# Altium footprint library Relays.PcbLib: 58 footprints (part 4 of 4)
Each footprint in its own frame and in the unit in brackets; x right, y up, seen from the top. Pads: shape width x height; smd on the part's side, far side on the other; paste and mask are expansions set on the pad; w line width, h text height; cw(c..) or ccw(c..) is an arc to the next point about the centre after c.
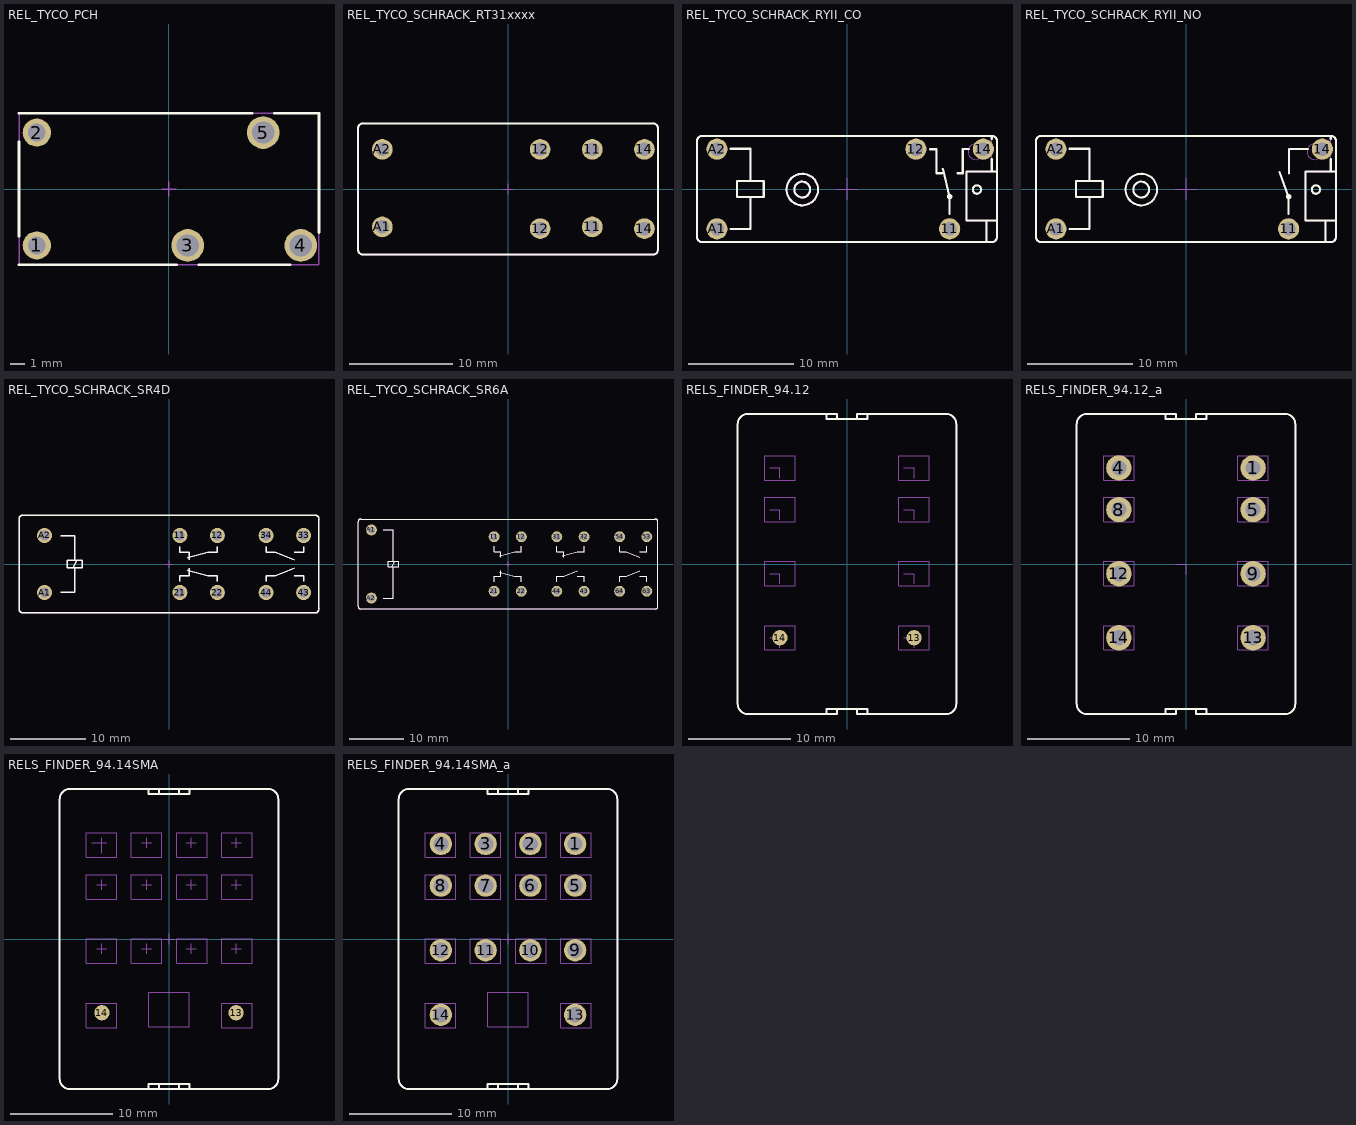
[diagram p3: the footprints below, top view; thin cyan lines are the x and y axes]

## REL_TYCO_PCH [mm] "5 Leads, Row Spacing 7.62 mm; Body 20mm x 10mm, TYCO PCH Serie"
height 15.2
pads (5):
  round 1.9 hole 1.2: 1(-8.9,-3.8) 2(-8.9,3.8)
  round 2.2 hole 1.5: 3(1.26,-3.8) 4(8.88,-3.8) 5(6.34,3.8)
Top Overlay:
  lines w0.2: -10.1,-5.1 0.512,-5.1 ; -10.1,-3.182 -10.1,3.182 ; -10.1,5.1 5.592,5.1 ; 2.008,-5.1 8.132,-5.1 ; 7.088,5.1 10.1,5.1 10.1,-2.927
Mechanical 8:
  lines w0.1: -9.4,-3.8 -8.9,-3.8 ; -9.4,3.8 -8.9,3.8 ; -8.9,-4.3 -8.9,-3.8 ; -8.9,-3.3 -8.9,-3.8 ; -8.9,3.3 -8.9,3.8 ; -8.9,4.3 -8.9,3.8 ; -8.4,-3.8 -8.9,-3.8 ; -8.4,3.8 -8.9,3.8 ; -0.5,0 0,0 ; 0,-0.5 0,0 ; 0,0.5 0,0 ; 0.5,0 0,0 ; 0.76,-3.8 1.26,-3.8 ; 1.26,-4.3 1.26,-3.8 ; 1.26,-3.3 1.26,-3.8 ; 1.76,-3.8 1.26,-3.8 ; 5.84,3.8 6.34,3.8 ; 6.34,3.3 6.34,3.8 ; 6.34,4.3 6.34,3.8 ; 6.84,3.8 6.34,3.8 ; 8.38,-3.8 8.88,-3.8 ; 8.88,-4.3 8.88,-3.8 ; 8.88,-3.3 8.88,-3.8 ; 9.38,-3.8 8.88,-3.8
Mechanical 14:
  lines w0.1: -10.1,-5.1 -10.1,5.1 10.1,5.1 10.1,-5.1 -10.1,-5.1
3D body: height 15.2, standoff -3.8, extent -10.1,-5.1 10.1,5.1

## REL_TYCO_SCHRACK_RT31xxxx [mm] "8 Leads, Row Spacing 7.62 mm; Body 29mm x 12.7mm, TYCO RT Serie"
height 15.7
pads (8):
  round 2 hole 1.3: 11(8.15,-3.67) 11(8.15,3.83) 12(3.11,-3.83) 12(3.11,3.83) 14(13.19,-3.83) 14(13.19,3.83) A1(-12.15,-3.67) A2(-12.15,3.83)
Top Overlay:
  lines w0.2: -14.5,-5.85 ccw(c-14,-5.85) -14,-6.35 14,-6.35 ccw(c14,-5.85) 14.5,-5.85 14.5,5.85 ccw(c14,5.85) 14,6.35 -14,6.35 ccw(c-14,5.85) -14.5,5.85 -14.5,-5.85
Mechanical 8:
  lines w0.1: -12.65,-3.67 -12.15,-3.67 ; -12.65,3.83 -12.15,3.83 ; -12.15,-4.17 -12.15,-3.67 ; -12.15,-3.17 -12.15,-3.67 ; -12.15,3.33 -12.15,3.83 ; -12.15,4.33 -12.15,3.83 ; -11.65,-3.67 -12.15,-3.67 ; -11.65,3.83 -12.15,3.83 ; -0.5,0 0,0 ; 0,-0.5 0,0 ; 0,0.5 0,0 ; 0.5,0 0,0 ; 2.61,-3.83 3.11,-3.83 ; 2.61,3.83 3.11,3.83 ; 3.11,-4.33 3.11,-3.83 ; 3.11,-3.33 3.11,-3.83 ; 3.11,3.33 3.11,3.83 ; 3.11,4.33 3.11,3.83 ; 3.61,-3.83 3.11,-3.83 ; 3.61,3.83 3.11,3.83 ; 7.65,-3.67 8.15,-3.67 ; 7.65,3.83 8.15,3.83 ; 8.15,-4.17 8.15,-3.67 ; 8.15,-3.17 8.15,-3.67 ; 8.15,3.33 8.15,3.83 ; 8.15,4.33 8.15,3.83 ; 8.65,-3.67 8.15,-3.67 ; 8.65,3.83 8.15,3.83 ; 12.69,-3.83 13.19,-3.83 ; 12.69,3.83 13.19,3.83 ; 13.19,-4.33 13.19,-3.83 ; 13.19,-3.33 13.19,-3.83 ; 13.19,3.33 13.19,3.83 ; 13.19,4.33 13.19,3.83 ; 13.69,-3.83 13.19,-3.83 ; 13.69,3.83 13.19,3.83
Mechanical 14:
  lines w0.1: -14.5,-5.85 ccw(c-14,-5.85) -14,-6.35 14,-6.35 ccw(c14,-5.85) 14.5,-5.85 14.5,5.85 ccw(c14,5.85) 14,6.35 -14,6.35 ccw(c-14,5.85) -14.5,5.85 -14.5,-5.85
3D body: height 15.7, standoff -3.6, extent -14.5,-6.35 14.5,6.35

## REL_TYCO_SCHRACK_RYII_CO [mm] "5 Leads, Row Spacing 7.62 mm; Body 28.5mm x 10.1mm, TYCO RYII Serie, CO Contact"
height 12.3
pads (5):
  round 2 hole 1.3: 11(9.75,-3.79) 12(6.55,3.79) 14(12.95,3.79) A1(-12.35,-3.79) A2(-12.35,3.79)
Top Overlay:
  circle w0.2: c12.35,-0.05 r0.4
  circle w0.2: c-4.25,-0.05 r1.5
  circle w0.2: c-4.25,-0.05 r0.75
  circle w0.2: c9.75,-0.725 r0.159
  lines w0.2: -11.084,-3.8 -9.179,-3.8 -9.179,-0.752 ; -11.084,3.82 -9.179,3.82 -9.179,0.772 ; 7.9,3.78 8.5,3.78 8.5,1.5 9,1.5 ; 9.1,1.9 9.75,-0.75 9.75,-2.39 ; 10.5,1.5 11,1.5 11,3.8 11.6,3.8 ; 13.25,-5.05 13.25,-3 ; 13.75,1.65 13.75,2.83 ; 13.75,4.75 13.75,5.043 ; 14.25,-3 11.35,-3 11.35,1.65 14.25,1.65 ; -14.25,-4.55 ccw(c-13.75,-4.55) -13.75,-5.05 13.75,-5.05 ccw(c13.75,-4.55) 14.25,-4.55 14.25,4.55 ccw(c13.75,4.55) 13.75,5.05 -13.75,5.05 ccw(c-13.75,4.55) -14.25,4.55 -14.25,-4.55 ; -10.449,-0.752 -7.909,-0.752 -7.909,0.772 -10.449,0.772 -10.449,-0.752
Mechanical 8:
  lines w0.1: -13.35,-3.79 -12.35,-3.79 ; -13.35,3.79 -12.35,3.79 ; -12.35,-4.79 -12.35,-3.79 ; -12.35,-2.79 -12.35,-3.79 ; -12.35,2.79 -12.35,3.79 ; -12.35,4.79 -12.35,3.79 ; -11.35,-3.79 -12.35,-3.79 ; -11.35,3.79 -12.35,3.79 ; -1,0 0,0 ; 0,-1 0,0 ; 0,1 0,0 ; 1,0 0,0 ; 5.55,3.79 6.55,3.79 ; 6.55,2.79 6.55,3.79 ; 6.55,4.79 6.55,3.79 ; 7.55,3.79 6.55,3.79 ; 8.75,-3.79 9.75,-3.79 ; 9.75,-4.79 9.75,-3.79 ; 9.75,-2.79 9.75,-3.79 ; 10.75,-3.79 9.75,-3.79 ; 11.95,3.79 12.95,3.79 ; 12.95,2.79 12.95,3.79 ; 12.95,4.79 12.95,3.79 ; 13.95,3.79 12.95,3.79
Mechanical 14:
  circle w0.1: c12.25,3.55 r0.75
  circle w0.1: c12.35,-0.05 r0.4
  circle w0.2: c-4.25,-0.05 r1.5
  circle w0.2: c-4.25,-0.05 r0.75
  circle w0.1: c9.75,-0.725 r0.159
  lines w0.1: -11.084,-3.8 -9.179,-3.8 -9.179,-0.752 ; -11.084,3.82 -9.179,3.82 -9.179,0.772 ; 7.9,3.78 8.5,3.78 8.5,1.5 9,1.5 ; 9.1,1.9 9.75,-0.75 9.75,-2.39 ; 10.5,1.5 11,1.5 11,3.8 11.6,3.8 ; 13.25,-5.05 13.25,-3 ; 13.75,1.65 13.75,5.043 ; 14.25,-3 11.35,-3 11.35,1.65 14.25,1.65 ; -14.25,-4.55 ccw(c-13.75,-4.55) -13.75,-5.05 13.75,-5.05 ccw(c13.75,-4.55) 14.25,-4.55 14.25,4.55 ccw(c13.75,4.55) 13.75,5.05 -13.75,5.05 ccw(c-13.75,4.55) -14.25,4.55 -14.25,-4.55 ; -10.449,-0.752 -7.909,-0.752 -7.909,0.772 -10.449,0.772 -10.449,-0.752
3D body: height 12.3, standoff -3.2, extent -14.25,-5.05 14.25,5.05

## REL_TYCO_SCHRACK_RYII_NO [mm] "4 Leads, Row Spacing 7.62 mm; Body 28.5mm x 10.1mm, TYCO RYII Serie, NO Contact"
height 12.3
pads (4):
  round 2 hole 1.3: 11(9.75,-3.79) 14(12.95,3.79) A1(-12.35,-3.79) A2(-12.35,3.79)
Top Overlay:
  circle w0.2: c9.75,-0.725 r0.159
  circle w0.2: c-4.25,-0.05 r0.75
  circle w0.2: c-4.25,-0.05 r1.5
  circle w0.2: c12.35,-0.05 r0.4
  lines w0.2: -11.084,-3.8 -9.179,-3.8 -9.179,-0.752 ; -11.084,3.82 -9.179,3.82 -9.179,0.772 ; 8.9,1.6 9.75,-0.75 9.75,-2.39 ; 9.8,1.5 9.8,3.8 11.6,3.8 ; 13.25,-5.05 13.25,-3 ; 13.75,1.65 13.75,2.83 ; 13.75,4.75 13.75,5.043 ; 14.25,-3 11.35,-3 11.35,1.65 14.25,1.65 ; -14.25,-4.55 ccw(c-13.75,-4.55) -13.75,-5.05 13.75,-5.05 ccw(c13.75,-4.55) 14.25,-4.55 14.25,4.55 ccw(c13.75,4.55) 13.75,5.05 -13.75,5.05 ccw(c-13.75,4.55) -14.25,4.55 -14.25,-4.55 ; -10.449,-0.752 -10.449,0.772 -7.909,0.772 -7.909,-0.752 -10.449,-0.752
Mechanical 8:
  lines w0.1: -13.35,-3.79 -12.35,-3.79 ; -13.35,3.79 -12.35,3.79 ; -12.35,-4.79 -12.35,-3.79 ; -12.35,-2.79 -12.35,-3.79 ; -12.35,2.79 -12.35,3.79 ; -12.35,4.79 -12.35,3.79 ; -11.35,-3.79 -12.35,-3.79 ; -11.35,3.79 -12.35,3.79 ; -1,0 0,0 ; 0,-1 0,0 ; 0,1 0,0 ; 1,0 0,0 ; 8.75,-3.79 9.75,-3.79 ; 9.75,-4.79 9.75,-3.79 ; 9.75,-2.79 9.75,-3.79 ; 10.75,-3.79 9.75,-3.79 ; 11.95,3.79 12.95,3.79 ; 12.95,2.79 12.95,3.79 ; 12.95,4.79 12.95,3.79 ; 13.95,3.79 12.95,3.79
Mechanical 14:
  circle w0.1: c9.75,-0.725 r0.159
  circle w0.1: c-4.25,-0.05 r0.75
  circle w0.1: c-4.25,-0.05 r1.5
  circle w0.1: c12.35,-0.05 r0.4
  circle w0.1: c12.25,3.55 r0.75
  lines w0.1: -11.084,-3.8 -9.179,-3.8 -9.179,-0.752 ; -11.084,3.82 -9.179,3.82 -9.179,0.772 ; 8.9,1.6 9.75,-0.75 9.75,-2.39 ; 9.8,1.5 9.8,3.8 11.6,3.8 ; 13.25,-5.05 13.25,-3 ; 13.75,1.65 13.75,5.043 ; 14.25,-3 11.35,-3 11.35,1.65 14.25,1.65 ; -14.25,-4.55 ccw(c-13.75,-4.55) -13.75,-5.05 13.75,-5.05 ccw(c13.75,-4.55) 14.25,-4.55 14.25,4.55 ccw(c13.75,4.55) 13.75,5.05 -13.75,5.05 ccw(c-13.75,4.55) -14.25,4.55 -14.25,-4.55 ; -10.449,-0.752 -10.449,0.772 -7.909,0.772 -7.909,-0.752 -10.449,-0.752
3D body: height 12.3, standoff -3.2, extent -14.25,-5 14.25,5.1

## REL_TYCO_SCHRACK_SR4D [mm] "10 Leads, Row Spacing 7.6 mm; Body 40mm x 13mm, TYCO SR4 Serie"
height 16.5
pads (10):
  round 2 hole 1.3: 11(1.45,3.8) 12(6.45,3.8) 21(1.45,-3.8) 22(6.45,-3.8) 33(17.95,3.8) 34(12.95,3.8) 43(17.95,-3.8) 44(12.95,-3.8) A1(-16.6,-3.8) A2(-16.6,3.8)
Top Overlay:
  lines w0.2: -14.41,-3.8 -12.55,-3.8 -12.55,-0.5 ; -14.41,3.8 -12.55,3.8 -12.55,0.5 ; -12.8,-0.5 -12.3,0.5 ; 1.45,-2.3 1.45,-1.55 2.7,-1.55 2.7,-0.55 ; 1.45,2.3 1.45,1.55 2.7,1.55 2.7,0.55 ; 2.45,-0.8 5.2,-1.55 6.45,-1.55 6.45,-2.3 ; 2.45,0.8 5.2,1.55 6.45,1.55 6.45,2.3 ; 12.95,-2.3 12.95,-1.55 14.2,-1.55 16.7,-0.55 ; 12.95,2.3 12.95,1.55 14.2,1.55 16.7,0.55 ; 16.7,-1.55 17.95,-1.55 17.95,-2.3 ; 16.7,1.55 17.95,1.55 17.95,2.3 ; -20,-6 ccw(c-19.5,-6) -19.5,-6.5 19.5,-6.5 ccw(c19.5,-6) 20,-6 20,6 ccw(c19.5,6) 19.5,6.5 -19.5,6.5 ccw(c-19.5,6) -20,6 -20,-6 ; -13.55,-0.5 -11.55,-0.5 -11.55,0.5 -13.55,0.5 -13.55,-0.5
Mechanical 8:
  lines w0.1: -17.1,-3.8 -16.6,-3.8 ; -17.1,3.8 -16.6,3.8 ; -16.6,-4.3 -16.6,-3.8 ; -16.6,-3.3 -16.6,-3.8 ; -16.6,3.3 -16.6,3.8 ; -16.6,4.3 -16.6,3.8 ; -16.1,-3.8 -16.6,-3.8 ; -16.1,3.8 -16.6,3.8 ; -0.5,0 0,0 ; 0,-0.5 0,0 ; 0,0.5 0,0 ; 0.5,0 0,0 ; 0.95,-3.8 1.45,-3.8 ; 0.95,3.8 1.45,3.8 ; 1.45,-4.3 1.45,-3.8 ; 1.45,-3.3 1.45,-3.8 ; 1.45,3.3 1.45,3.8 ; 1.45,4.3 1.45,3.8 ; 1.95,-3.8 1.45,-3.8 ; 1.95,3.8 1.45,3.8 ; 5.95,-3.8 6.45,-3.8 ; 5.95,3.8 6.45,3.8 ; 6.45,-4.3 6.45,-3.8 ; 6.45,-3.3 6.45,-3.8 ; 6.45,3.3 6.45,3.8 ; 6.45,4.3 6.45,3.8 ; 6.95,-3.8 6.45,-3.8 ; 6.95,3.8 6.45,3.8 ; 12.45,-3.8 12.95,-3.8 ; 12.45,3.8 12.95,3.8 ; 12.95,-4.3 12.95,-3.8 ; 12.95,-3.3 12.95,-3.8 ; 12.95,3.3 12.95,3.8 ; 12.95,4.3 12.95,3.8 ; 13.45,-3.8 12.95,-3.8 ; 13.45,3.8 12.95,3.8 ; 17.45,-3.8 17.95,-3.8 ; 17.45,3.8 17.95,3.8 ; 17.95,-4.3 17.95,-3.8 ; 17.95,-3.3 17.95,-3.8 ; 17.95,3.3 17.95,3.8 ; 17.95,4.3 17.95,3.8 ; 18.45,-3.8 17.95,-3.8 ; 18.45,3.8 17.95,3.8
Mechanical 14:
  lines w0.1: -14.41,-3.8 -12.55,-3.8 -12.55,-0.5 ; -14.41,3.8 -12.55,3.8 -12.55,0.5 ; -12.8,-0.5 -12.3,0.5 ; 1.45,-2.3 1.45,-1.55 2.7,-1.55 2.7,-0.55 ; 1.45,2.3 1.45,1.55 2.7,1.55 2.7,0.55 ; 2.45,-0.8 5.2,-1.55 6.45,-1.55 6.45,-2.3 ; 2.45,0.8 5.2,1.55 6.45,1.55 6.45,2.3 ; 12.95,-2.3 12.95,-1.55 14.2,-1.55 16.7,-0.55 ; 12.95,2.3 12.95,1.55 14.2,1.55 16.7,0.55 ; 16.7,-1.55 17.95,-1.55 17.95,-2.3 ; 16.7,1.55 17.95,1.55 17.95,2.3 ; -20,-6 ccw(c-19.5,-6) -19.5,-6.5 19.5,-6.5 ccw(c19.5,-6) 20,-6 20,6 ccw(c19.5,6) 19.5,6.5 -19.5,6.5 ccw(c-19.5,6) -20,6 -20,-6 ; -13.55,-0.5 -11.55,-0.5 -11.55,0.5 -13.55,0.5 -13.55,-0.5
3D body: height 16.5, standoff -3.3, extent -20,-6.5 20,6.5

## REL_TYCO_SCHRACK_SR6A [mm] "14 Leads, Row Spacing 10mm; Body 55mm x 16.5mm, TYCO SR6 Serie"
height 16.5
pads (14):
  round 2 hole 1.3: 11(-2.55,5) 12(2.45,5) 21(-2.55,-5) 22(2.45,-5) 31(8.95,5) 32(13.95,5) 43(13.95,-5) 44(8.95,-5) 53(25.45,5) 54(20.45,5) 63(25.45,-5) 64(20.45,-5) A1(-25.05,6.25) A2(-25.05,-6.25)
Top Overlay:
  lines w0.2: -22.86,-6.25 -21,-6.25 -21,-0.5 ; -22.86,6.25 -21,6.25 -21,0.5 ; -21.25,-0.5 -20.75,0.5 ; -2.55,-3.25 -2.55,-2.25 -1.3,-2.25 -1.3,-1.25 ; -2.55,3.25 -2.55,2.25 -1.3,2.25 -1.3,1.25 ; -1.55,-1.5 1.2,-2.25 2.45,-2.25 2.45,-3.25 ; -1.55,1.5 1.2,2.25 2.45,2.25 2.45,3.25 ; 8.95,-3.25 8.95,-2.25 10.2,-2.25 12.7,-1.25 ; 8.95,3.25 8.95,2.25 10.2,2.25 10.2,1.25 ; 9.95,1.5 12.7,2.25 13.95,2.25 13.95,3.25 ; 12.7,-2.25 13.95,-2.25 13.95,-3.25 ; 20.45,-3.25 20.45,-2.25 21.7,-2.25 24.2,-1.25 ; 20.45,3.25 20.45,2.25 21.7,2.25 24.2,1.25 ; 24.2,-2.25 25.45,-2.25 25.45,-3.25 ; 24.2,2.25 25.45,2.25 25.45,3.25 ; -27.5,-7.75 ccw(c-27,-7.75) -27,-8.25 27,-8.25 ccw(c27,-7.75) 27.5,-7.75 27.5,7.75 ccw(c27,7.75) 27,8.25 -27,8.25 ccw(c-27,7.75) -27.5,7.75 -27.5,-7.75 ; -22,-0.5 -22,0.5 -20,0.5 -20,-0.5 -22,-0.5
Mechanical 8:
  lines w0.1: -25.55,-6.25 -25.05,-6.25 ; -25.55,6.25 -25.05,6.25 ; -25.05,-6.75 -25.05,-6.25 ; -25.05,-5.75 -25.05,-6.25 ; -25.05,5.75 -25.05,6.25 ; -25.05,6.75 -25.05,6.25 ; -24.55,-6.25 -25.05,-6.25 ; -24.55,6.25 -25.05,6.25 ; -3.05,-5 -2.55,-5 ; -3.05,5 -2.55,5 ; -2.55,-5.5 -2.55,-5 ; -2.55,-4.5 -2.55,-5 ; -2.55,4.5 -2.55,5 ; -2.55,5.5 -2.55,5 ; -2.05,-5 -2.55,-5 ; -2.05,5 -2.55,5 ; -0.5,0 0,0 ; 0,-0.5 0,0 ; 0,0.5 0,0 ; 0.5,0 0,0 ; 1.95,-5 2.45,-5 ; 1.95,5 2.45,5 ; 2.45,-5.5 2.45,-5 ; 2.45,-4.5 2.45,-5 ; 2.45,4.5 2.45,5 ; 2.45,5.5 2.45,5 ; 2.95,-5 2.45,-5 ; 2.95,5 2.45,5 ; 8.45,-5 8.95,-5 ; 8.45,5 8.95,5 ; 8.95,-5.5 8.95,-5 ; 8.95,-4.5 8.95,-5 ; 8.95,4.5 8.95,5 ; 8.95,5.5 8.95,5 ; 9.45,-5 8.95,-5 ; 9.45,5 8.95,5 ; 13.45,-5 13.95,-5 ; 13.45,5 13.95,5 ; 13.95,-5.5 13.95,-5 ; 13.95,-4.5 13.95,-5 ; 13.95,4.5 13.95,5 ; 13.95,5.5 13.95,5 ; 14.45,-5 13.95,-5 ; 14.45,5 13.95,5 ; 19.95,-5 20.45,-5 ; 19.95,5 20.45,5 ; 20.45,-5.5 20.45,-5 ; 20.45,-4.5 20.45,-5 ; 20.45,4.5 20.45,5 ; 20.45,5.5 20.45,5 ; 20.95,-5 20.45,-5 ; 20.95,5 20.45,5 ; 24.95,-5 25.45,-5 ; 24.95,5 25.45,5 ; 25.45,-5.5 25.45,-5 ; 25.45,-4.5 25.45,-5 ; 25.45,4.5 25.45,5 ; 25.45,5.5 25.45,5 ; 25.95,-5 25.45,-5 ; 25.95,5 25.45,5
Mechanical 14:
  lines w0.1: -22.86,-6.25 -21,-6.25 -21,-0.5 ; -22.86,6.25 -21,6.25 -21,0.5 ; -21.25,-0.5 -20.75,0.5 ; -2.55,-3.25 -2.55,-2.25 -1.3,-2.25 -1.3,-1.25 ; -2.55,3.25 -2.55,2.25 -1.3,2.25 -1.3,1.25 ; -1.55,-1.5 1.2,-2.25 2.45,-2.25 2.45,-3.25 ; -1.55,1.5 1.2,2.25 2.45,2.25 2.45,3.25 ; 8.95,-3.25 8.95,-2.25 10.2,-2.25 12.7,-1.25 ; 8.95,3.25 8.95,2.25 10.2,2.25 10.2,1.25 ; 9.95,1.5 12.7,2.25 13.95,2.25 13.95,3.25 ; 12.7,-2.25 13.95,-2.25 13.95,-3.25 ; 20.45,-3.25 20.45,-2.25 21.7,-2.25 24.2,-1.25 ; 20.45,3.25 20.45,2.25 21.7,2.25 24.2,1.25 ; 24.2,-2.25 25.45,-2.25 25.45,-3.25 ; 24.2,2.25 25.45,2.25 25.45,3.25 ; -27.5,-7.75 ccw(c-27,-7.75) -27,-8.25 27,-8.25 ccw(c27,-7.75) 27.5,-7.75 27.5,7.75 ccw(c27,7.75) 27,8.25 -27,8.25 ccw(c-27,7.75) -27.5,7.75 -27.5,-7.75 ; -22,-0.5 -20,-0.5 -20,0.5 -22,0.5 -22,-0.5
3D body: height 16.5, standoff -3.3, extent -27.5,-8.25 27.5,8.25

## RELS_FINDER_94.12 [mm] "Graphical Model for Relay Socket, FINDER_94.12 Serie (Do Not Use Alone, Use Only With Relay)"
height 11.5
pads (2):
  round 1.5 smd paste-0.76 mask-0.76: 13(6.6,-7.25) 14(-6.6,-7.25)
Top Overlay:
  lines w0.2: -2,-14.75 -2,-14.25 2,-14.25 2,-14.75 ; -2,14.75 -2,14.25 2,14.25 2,14.75 ; -1,-14.25 -1,-14.75 -9.75,-14.75 cw(c-9.75,-13.75) -10.75,-13.75 -10.75,13.75 cw(c-9.75,13.75) -9.75,14.75 -1,14.75 -1,14.25 ; 1,-14.25 1,-14.75 9.75,-14.75 ccw(c9.75,-13.75) 10.75,-13.75 10.75,13.75 ccw(c9.75,13.75) 9.75,14.75 1,14.75 1,14.25
Mechanical 8:
  lines w0.1: -7.6,-7.25 -6.6,-7.25 -6.6,-8.25 ; -7.6,-0.95 -6.6,-0.95 -6.6,-1.95 ; -7.6,5.35 -6.6,5.35 -6.6,4.35 ; -7.6,9.45 -6.6,9.45 -6.6,8.45 ; 5.6,-7.25 6.6,-7.25 6.6,-8.25 ; 5.6,-0.95 6.6,-0.95 6.6,-1.95 ; 5.6,5.35 6.6,5.35 6.6,4.35 ; 5.6,9.45 6.6,9.45 6.6,8.45
  text "Must be Used with FINDER 55.32 Relay" at 2.54,-12.7 h0.95
  text "44" at -7.85,4.1 h1.5
  text "42" at -7.85,8.2 h1.5
  text "41" at -7.85,-1.95 h1.5
  text "A2" at -7.85,-8.5 h1.5
  text "8" at -3.85,4.85 h1.5
  text "4" at -3.85,8.95 h1.5
  text "12" at -3.85,-1.95 h1.5
  text "14" at -3.85,-8.25 h1.5
  text "5" at 5.35,4.85 h1.5
  text "1" at 5.35,9.2 h1.5
  text "9" at 5.35,-1.45 h1.5
  text "13" at 5.35,-8.25 h1.5
  text "14" at 9.35,4.35 h1.5
  text "12" at 9.35,8.45 h1.5
  text "11" at 9.35,-1.7 h1.5
  text "A1" at 9.35,-8.25 h1.5
Mechanical 14:
  lines w0.1: -2,-14.75 -2,-14.25 2,-14.25 2,-14.75 ; -2,14.75 -2,14.25 2,14.25 2,14.75 ; -1,-14.25 -1,-14.75 -9.75,-14.75 cw(c-9.75,-13.75) -10.75,-13.75 -10.75,13.75 cw(c-9.75,13.75) -9.75,14.75 -1,14.75 -1,14.25 ; 1,-14.25 1,-14.75 9.75,-14.75 ccw(c9.75,-13.75) 10.75,-13.75 10.75,13.75 ccw(c9.75,13.75) 9.75,14.75 1,14.75 1,14.25 ; -8.101,-8.45 -8.101,-6.05 -5.101,-6.05 -5.101,-8.45 -8.101,-8.45 ; -8.101,-2.15 -8.101,0.25 -5.101,0.25 -5.101,-2.15 -8.101,-2.15 ; -8.101,4.15 -8.101,6.55 -5.101,6.55 -5.101,4.15 -8.101,4.15 ; -8.101,8.25 -8.101,10.65 -5.101,10.65 -5.101,8.25 -8.101,8.25 ; 5.1,-8.45 5.1,-6.05 8.1,-6.05 8.1,-8.45 5.1,-8.45 ; 5.1,-2.15 5.1,0.25 8.1,0.25 8.1,-2.15 5.1,-2.15 ; 5.1,4.15 5.1,6.55 8.1,6.55 8.1,4.15 5.1,4.15 ; 5.1,8.25 5.1,10.65 8.1,10.65 8.1,8.25 5.1,8.25
3D body: height 11.5, standoff -3.7, extent -10.749,-14.75 10.751,14.75

## RELS_FINDER_94.12_a [mm] "8 Leads Relay Socket, Row Spacing 13.2mm; Body 21.5mm x 29.5mm, FINDER_94.12 Serie (Use Only Without Relay)"
height 11.5
pads (8):
  round 2.5 hole 1.5: 1(6.6,9.45) 4(-6.6,9.45) 5(6.6,5.35) 8(-6.6,5.35) 9(6.6,-0.95) 12(-6.6,-0.95) 13(6.6,-7.25) 14(-6.6,-7.25)
Top Overlay:
  lines w0.2: -2,-14.75 -2,-14.25 2,-14.25 2,-14.75 ; -2,14.75 -2,14.25 2,14.25 2,14.75 ; -1,-14.25 -1,-14.75 -9.75,-14.75 cw(c-9.75,-13.75) -10.75,-13.75 -10.75,13.75 cw(c-9.75,13.75) -9.75,14.75 -1,14.75 -1,14.25 ; 1,-14.25 1,-14.75 9.75,-14.75 ccw(c9.75,-13.75) 10.75,-13.75 10.75,13.75 ccw(c9.75,13.75) 9.75,14.75 1,14.75 1,14.25
Mechanical 8:
  lines w0.1: -7.6,-7.25 -6.6,-7.25 -6.6,-8.25 ; -7.6,-0.95 -6.6,-0.95 -6.6,-1.95 ; -7.6,5.35 -6.6,5.35 -6.6,4.35 ; -7.6,9.45 -6.6,9.45 -6.6,8.45 ; -1,0 0,0 0,-1 ; 5.6,-7.25 6.6,-7.25 6.6,-8.25 ; 5.6,-0.95 6.6,-0.95 6.6,-1.95 ; 5.6,5.35 6.6,5.35 6.6,4.35 ; 5.6,9.45 6.6,9.45 6.6,8.45
  text "44" at -7.85,4.1 h1.5
  text "42" at -7.85,8.2 h1.5
  text "41" at -7.85,-1.95 h1.5
  text "A2" at -7.85,-8.5 h1.5
  text "8" at -3.85,4.85 h1.5
  text "4" at -3.85,8.95 h1.5
  text "12" at -3.85,-1.95 h1.5
  text "14" at -3.85,-8.25 h1.5
  text "5" at 5.35,4.85 h1.5
  text "1" at 5.35,9.2 h1.5
  text "9" at 5.35,-1.45 h1.5
  text "13" at 5.35,-8.25 h1.5
  text "14" at 9.35,4.35 h1.5
  text "12" at 9.35,8.45 h1.5
  text "11" at 9.35,-1.7 h1.5
  text "A1" at 9.35,-8.25 h1.5
Mechanical 14:
  lines w0.1: -2,-14.75 -2,-14.25 2,-14.25 2,-14.75 ; -2,14.75 -2,14.25 2,14.25 2,14.75 ; -1,-14.25 -1,-14.75 -9.75,-14.75 cw(c-9.75,-13.75) -10.75,-13.75 -10.75,13.75 cw(c-9.75,13.75) -9.75,14.75 -1,14.75 -1,14.25 ; 1,-14.25 1,-14.75 9.75,-14.75 ccw(c9.75,-13.75) 10.75,-13.75 10.75,13.75 ccw(c9.75,13.75) 9.75,14.75 1,14.75 1,14.25 ; -8.101,-8.45 -8.101,-6.05 -5.101,-6.05 -5.101,-8.45 -8.101,-8.45 ; -8.101,-2.15 -8.101,0.25 -5.101,0.25 -5.101,-2.15 -8.101,-2.15 ; -8.101,4.15 -8.101,6.55 -5.101,6.55 -5.101,4.15 -8.101,4.15 ; -8.101,8.25 -8.101,10.65 -5.101,10.65 -5.101,8.25 -8.101,8.25 ; 5.1,-8.45 5.1,-6.05 8.1,-6.05 8.1,-8.45 5.1,-8.45 ; 5.1,-2.15 5.1,0.25 8.1,0.25 8.1,-2.15 5.1,-2.15 ; 5.1,4.15 5.1,6.55 8.1,6.55 8.1,4.15 5.1,4.15 ; 5.1,8.25 5.1,10.65 8.1,10.65 8.1,8.25 5.1,8.25
3D body: height 11.5, standoff -3.7, extent -10.749,-14.75 10.751,14.75

## RELS_FINDER_94.14SMA [mm] "Graphical Model for Relay Socket, FINDER_94.14 Serie (Do Not Use Alone, Use Only With Relay)"
height 11.5
pads (2):
  round 1.5 smd paste-0.76 mask-0.76: 13(6.6,-7.25) 14(-6.6,-7.25)
Top Overlay:
  lines w0.2: -2,-14.75 -2,-14.25 2,-14.25 2,-14.75 ; -2,14.75 -2,14.25 2,14.25 2,14.75 ; -1,-14.75 -1,-14.25 ; -1,14.25 -1,14.75 ; 1,-14.75 1,-14.25 ; 1,14.25 1,14.75 ; -10.75,-13.75 ccw(c-9.75,-13.75) -9.75,-14.75 9.75,-14.75 ccw(c9.75,-13.75) 10.75,-13.75 10.75,13.75 ccw(c9.75,13.75) 9.75,14.75 -9.75,14.75 ccw(c-9.75,13.75) -10.75,13.75 -10.75,-13.75
Mechanical 8:
  lines w0.1: -7.6,9.45 -6.6,9.45 ; -7.1,-7.25 -6.6,-7.25 ; -7.1,-0.95 -6.6,-0.95 ; -7.1,5.35 -6.6,5.35 ; -7.1,9.45 -6.6,9.45 ; -6.6,-7.75 -6.6,-7.25 ; -6.6,-6.75 -6.6,-7.25 ; -6.6,-1.45 -6.6,-0.95 ; -6.6,-0.45 -6.6,-0.95 ; -6.6,4.85 -6.6,5.35 ; -6.6,5.85 -6.6,5.35 ; -6.6,8.45 -6.6,9.45 ; -6.6,8.95 -6.6,9.45 ; -6.6,9.95 -6.6,9.45 ; -6.1,-7.25 -6.6,-7.25 ; -6.1,-0.95 -6.6,-0.95 ; -6.1,5.35 -6.6,5.35 ; -6.1,9.45 -6.6,9.45 ; -2.7,-0.95 -2.2,-0.95 ; -2.7,5.35 -2.2,5.35 ; -2.7,9.45 -2.2,9.45 ; -2.2,-1.45 -2.2,-0.95 ; -2.2,-0.45 -2.2,-0.95 ; -2.2,4.85 -2.2,5.35 ; -2.2,5.85 -2.2,5.35 ; -2.2,8.95 -2.2,9.45 ; -2.2,9.95 -2.2,9.45 ; -1.7,-0.95 -2.2,-0.95 ; -1.7,5.35 -2.2,5.35 ; -1.7,9.45 -2.2,9.45 ; -0.5,0 0,0 ; 0,-0.5 0,0 ; 0,0.5 0,0 ; 0.5,0 0,0 ; 1.7,-0.95 2.2,-0.95 ; 1.7,5.35 2.2,5.35 ; 1.7,9.45 2.2,9.45 ; 2.2,-1.45 2.2,-0.95 ; 2.2,-0.45 2.2,-0.95 ; 2.2,4.85 2.2,5.35 ; 2.2,5.85 2.2,5.35 ; 2.2,8.95 2.2,9.45 ; 2.2,9.95 2.2,9.45 ; 2.7,-0.95 2.2,-0.95 ; 2.7,5.35 2.2,5.35 ; 2.7,9.45 2.2,9.45 ; 6.1,-7.25 6.6,-7.25 ; 6.1,-0.95 6.6,-0.95 ; 6.1,5.35 6.6,5.35 ; 6.1,9.45 6.6,9.45 ; 6.6,-7.75 6.6,-7.25 ; 6.6,-6.75 6.6,-7.25 ; 6.6,-1.45 6.6,-0.95 ; 6.6,-0.45 6.6,-0.95 ; 6.6,4.85 6.6,5.35 ; 6.6,5.85 6.6,5.35 ; 6.6,8.95 6.6,9.45 ; 6.6,9.95 6.6,9.45 ; 7.1,-7.25 6.6,-7.25 ; 7.1,-0.95 6.6,-0.95 ; 7.1,5.35 6.6,5.35 ; 7.1,9.45 6.6,9.45
  text "FINDER 55.32 Relay" at -6.55,-5.533 h0.95
  text "1" at 5.3,8.9 h1.5
  text "5" at 5.3,4.8 h1.5
  text "9" at 5.3,-1.5 h1.5
  text "10" at 0.9,-2 h1.5
  text "11" at -3.5,-1.5 h1.5
  text "6" at 0.9,4.8 h1.5
  text "2" at 0.9,8.9 h1.5
  text "3" at -3.5,8.9 h1.5
  text "7" at -3.5,4.8 h1.5
  text "Must be Used with" at -6.5,-3.8 h0.95
  text "8" at -7.9,4.8 h1.5
  text "4" at -7.9,8.8 h1.5
  text "12" at -7.85,-1.95 h1.5
  text "13" at 5.3,-8.55 h1.5
  text "14" at -7.9,-8.55 h1.5
Mechanical 14:
  lines w0.1: -2,-14.75 -2,-14.25 2,-14.25 2,-14.75 ; -2,14.75 -2,14.25 2,14.25 2,14.75 ; -1,-14.75 -1,-14.25 ; -1,14.25 -1,14.75 ; 1,-14.75 1,-14.25 ; 1,14.25 1,14.75 ; -10.75,-13.75 ccw(c-9.75,-13.75) -9.75,-14.75 9.75,-14.75 ccw(c9.75,-13.75) 10.75,-13.75 10.75,13.75 ccw(c9.75,13.75) 9.75,14.75 -9.75,14.75 ccw(c-9.75,13.75) -10.75,13.75 -10.75,-13.75 ; -8.142,-8.719 -5.142,-8.719 -5.142,-6.319 -8.142,-6.319 -8.142,-8.719 ; -8.142,-2.369 -8.142,0.031 -5.142,0.031 -5.142,-2.369 -8.142,-2.369 ; -8.142,3.931 -5.142,3.931 -5.142,6.331 -8.142,6.331 -8.142,3.931 ; -8.142,8.031 -5.142,8.031 -5.142,10.431 -8.142,10.431 -8.142,8.031 ; -3.701,-2.369 -0.701,-2.369 -0.701,0.031 -3.701,0.031 -3.701,-2.369 ; -3.701,3.931 -3.701,6.331 -0.701,6.331 -0.701,3.931 -3.701,3.931 ; -3.701,8.031 -3.701,10.431 -0.701,10.431 -0.701,8.031 -3.701,8.031 ; -2,-8.65 2,-8.65 2,-5.25 -2,-5.25 -2,-8.65 ; 0.748,-2.369 3.748,-2.369 3.748,0.031 0.748,0.031 0.748,-2.369 ; 0.748,3.931 3.748,3.931 3.748,6.331 0.748,6.331 0.748,3.931 ; 0.748,8.031 3.748,8.031 3.748,10.431 0.748,10.431 0.748,8.031 ; 5.188,-8.719 5.188,-6.319 8.188,-6.319 8.188,-8.719 5.188,-8.719 ; 5.188,-2.369 8.188,-2.369 8.188,0.031 5.188,0.031 5.188,-2.369 ; 5.188,3.931 5.188,6.331 8.188,6.331 8.188,3.931 5.188,3.931 ; 5.188,8.031 5.188,10.431 8.188,10.431 8.188,8.031 5.188,8.031
3D body: height 11.5, standoff -3.7, extent -10.75,-14.75 10.75,14.75

## RELS_FINDER_94.14SMA_a [mm] "14 Leads Relay Socket, Row Spacing 4.4mm; Body 21.5mm x 29.5mm, FINDER_94.14 Serie (Use Only Without Relay)"
height 11.5
pads (14):
  round 2.2 hole 1.5: 1(6.6,9.35) 2(2.2,9.35) 3(-2.2,9.35) 4(-6.6,9.35) 5(6.6,5.25) 6(2.2,5.25) 7(-2.2,5.25) 8(-6.6,5.25) 9(6.6,-1.1) 10(2.2,-1.1) 11(-2.2,-1.1) 12(-6.6,-1.1) 13(6.6,-7.45) 14(-6.6,-7.45)
Top Overlay:
  lines w0.2: -2,-14.75 -2,-14.25 2,-14.25 2,-14.75 ; -2,14.75 -2,14.25 2,14.25 2,14.75 ; -1,-14.75 -1,-14.25 ; -1,14.25 -1,14.75 ; 1,-14.75 1,-14.25 ; 1,14.25 1,14.75 ; -10.75,-13.75 ccw(c-9.75,-13.75) -9.75,-14.75 9.75,-14.75 ccw(c9.75,-13.75) 10.75,-13.75 10.75,13.75 ccw(c9.75,13.75) 9.75,14.75 -9.75,14.75 ccw(c-9.75,13.75) -10.75,13.75 -10.75,-13.75
Mechanical 8:
  lines w0.1: -7.6,9.45 -6.6,9.45 ; -7.1,-7.25 -6.6,-7.25 ; -7.1,-0.95 -6.6,-0.95 ; -7.1,5.35 -6.6,5.35 ; -7.1,9.45 -6.6,9.45 ; -6.6,-7.75 -6.6,-7.25 ; -6.6,-6.75 -6.6,-7.25 ; -6.6,-1.45 -6.6,-0.95 ; -6.6,-0.45 -6.6,-0.95 ; -6.6,4.85 -6.6,5.35 ; -6.6,5.85 -6.6,5.35 ; -6.6,8.45 -6.6,9.45 ; -6.6,8.95 -6.6,9.45 ; -6.6,9.95 -6.6,9.45 ; -6.1,-7.25 -6.6,-7.25 ; -6.1,-0.95 -6.6,-0.95 ; -6.1,5.35 -6.6,5.35 ; -6.1,9.45 -6.6,9.45 ; -2.7,-0.95 -2.2,-0.95 ; -2.7,5.35 -2.2,5.35 ; -2.7,9.45 -2.2,9.45 ; -2.2,-1.45 -2.2,-0.95 ; -2.2,-0.45 -2.2,-0.95 ; -2.2,4.85 -2.2,5.35 ; -2.2,5.85 -2.2,5.35 ; -2.2,8.95 -2.2,9.45 ; -2.2,9.95 -2.2,9.45 ; -1.7,-0.95 -2.2,-0.95 ; -1.7,5.35 -2.2,5.35 ; -1.7,9.45 -2.2,9.45 ; -0.5,0 0,0 ; 0,-0.5 0,0 ; 0,0.5 0,0 ; 0.5,0 0,0 ; 1.7,-0.95 2.2,-0.95 ; 1.7,5.35 2.2,5.35 ; 1.7,9.45 2.2,9.45 ; 2.2,-1.45 2.2,-0.95 ; 2.2,-0.45 2.2,-0.95 ; 2.2,4.85 2.2,5.35 ; 2.2,5.85 2.2,5.35 ; 2.2,8.95 2.2,9.45 ; 2.2,9.95 2.2,9.45 ; 2.7,-0.95 2.2,-0.95 ; 2.7,5.35 2.2,5.35 ; 2.7,9.45 2.2,9.45 ; 6.1,-7.25 6.6,-7.25 ; 6.1,-0.95 6.6,-0.95 ; 6.1,5.35 6.6,5.35 ; 6.1,9.45 6.6,9.45 ; 6.6,-7.75 6.6,-7.25 ; 6.6,-6.75 6.6,-7.25 ; 6.6,-1.45 6.6,-0.95 ; 6.6,-0.45 6.6,-0.95 ; 6.6,4.85 6.6,5.35 ; 6.6,5.85 6.6,5.35 ; 6.6,8.95 6.6,9.45 ; 6.6,9.95 6.6,9.45 ; 7.1,-7.25 6.6,-7.25 ; 7.1,-0.95 6.6,-0.95 ; 7.1,5.35 6.6,5.35 ; 7.1,9.45 6.6,9.45
  text "14" at -7.9,-8.55 h1.5
  text "13" at 5.3,-8.55 h1.5
  text "1" at 5.3,8.9 h1.5
  text "5" at 5.3,4.8 h1.5
  text "9" at 5.3,-1.5 h1.5
  text "10" at 0.9,-2 h1.5
  text "11" at -3.5,-1.5 h1.5
  text "6" at 0.9,4.8 h1.5
  text "2" at 0.9,8.9 h1.5
  text "3" at -3.5,8.9 h1.5
  text "7" at -3.5,4.8 h1.5
  text "8" at -7.9,4.8 h1.5
  text "4" at -7.9,8.8 h1.5
  text "12" at -7.85,-1.95 h1.5
Mechanical 14:
  lines w0.1: -2,-14.75 -2,-14.25 2,-14.25 2,-14.75 ; -2,14.75 -2,14.25 2,14.25 2,14.75 ; -1,-14.75 -1,-14.25 ; -1,14.25 -1,14.75 ; 1,-14.75 1,-14.25 ; 1,14.25 1,14.75 ; -10.75,-13.75 ccw(c-9.75,-13.75) -9.75,-14.75 9.75,-14.75 ccw(c9.75,-13.75) 10.75,-13.75 10.75,13.75 ccw(c9.75,13.75) 9.75,14.75 -9.75,14.75 ccw(c-9.75,13.75) -10.75,13.75 -10.75,-13.75 ; -8.142,-8.719 -5.142,-8.719 -5.142,-6.319 -8.142,-6.319 -8.142,-8.719 ; -8.142,-2.369 -8.142,0.031 -5.142,0.031 -5.142,-2.369 -8.142,-2.369 ; -8.142,3.931 -5.142,3.931 -5.142,6.331 -8.142,6.331 -8.142,3.931 ; -8.142,8.031 -5.142,8.031 -5.142,10.431 -8.142,10.431 -8.142,8.031 ; -3.701,-2.369 -0.701,-2.369 -0.701,0.031 -3.701,0.031 -3.701,-2.369 ; -3.701,3.931 -3.701,6.331 -0.701,6.331 -0.701,3.931 -3.701,3.931 ; -3.701,8.031 -3.701,10.431 -0.701,10.431 -0.701,8.031 -3.701,8.031 ; -2,-8.65 2,-8.65 2,-5.25 -2,-5.25 -2,-8.65 ; 0.748,-2.369 3.748,-2.369 3.748,0.031 0.748,0.031 0.748,-2.369 ; 0.748,3.931 3.748,3.931 3.748,6.331 0.748,6.331 0.748,3.931 ; 0.748,8.031 3.748,8.031 3.748,10.431 0.748,10.431 0.748,8.031 ; 5.188,-8.719 5.188,-6.319 8.188,-6.319 8.188,-8.719 5.188,-8.719 ; 5.188,-2.369 8.188,-2.369 8.188,0.031 5.188,0.031 5.188,-2.369 ; 5.188,3.931 5.188,6.331 8.188,6.331 8.188,3.931 5.188,3.931 ; 5.188,8.031 5.188,10.431 8.188,10.431 8.188,8.031 5.188,8.031
3D body: height 11.5, standoff -3.7, extent -10.75,-14.75 10.75,14.75